# EAGLE library part DRV8818PWPR (library drv88xx)
Driver controlador de motor en paquete HTSSOP
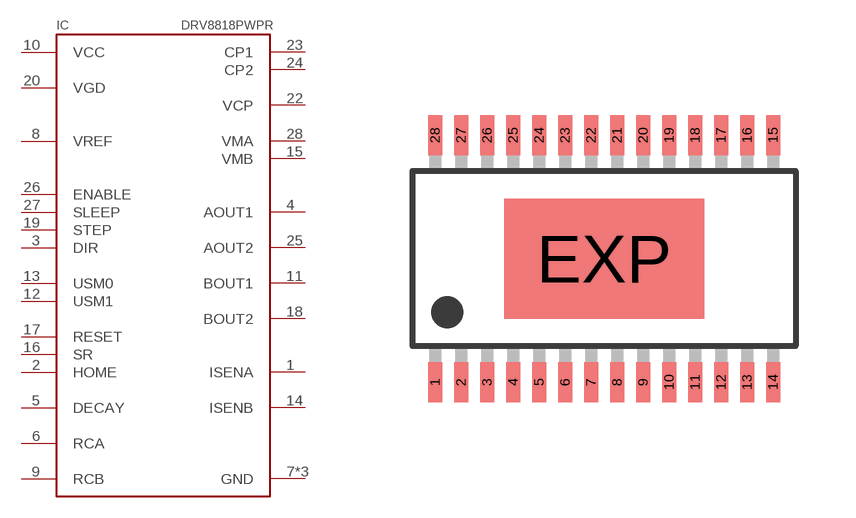
[diagram p1: symbol with the pads of TSSOP-28; footprint TSSOP-28]

Designator prefix IC

## DRV8818PWPR  [TSSOP-28]
1  ISENA  pas
2  HOME  out
3  DIR  in
4  AOUT1  out
5  DECAY  pas
6  RCA  pas
7  GND  pwr
8  VREF  pas
9  RCB  pas
10  VCC  pwr
11  BOUT1  out
12  USM1  in
13  USM0  in
14  ISENB  pas
15  VMB  pwr
16  SR  in
17  RESET  in
18  BOUT2  out
19  STEP  in
20  VGD
21  GND  pwr
22  VCP
23  CP1
24  CP2
25  AOUT2  out
26  ENABLE  in
27  SLEEP  in
28  VMA  pwr
EXP  GND  pwr

## Footprint TSSOP-28 (pad centres in mm)
smd 0.35 x 1: 1 -4.225,-3.087; 2 -3.575,-3.087; 3 -2.925,-3.087; 4 -2.275,-3.087; 5 -1.625,-3.087; 6 -0.975,-3.087; 7 -0.325,-3.087; 8 0.325,-3.087; 9 0.975,-3.087; 10 1.625,-3.087; 11 2.275,-3.087; 12 2.925,-3.087; 13 3.575,-3.087; 14 4.225,-3.087; 15 4.225,3.087; 16 3.575,3.087; 17 2.925,3.087; 18 2.275,3.087; 19 1.625,3.087; 20 0.975,3.087; 21 0.325,3.087; 22 -0.325,3.087; 23 -0.975,3.087; 24 -1.625,3.087; 25 -2.275,3.087; 26 -2.925,3.087; 27 -3.575,3.087; 28 -4.225,3.087
smd 5 x 3: EXP 0,0